# Altium footprint library MesComposants.PcbLib: 6 footprints
Each footprint in its own frame and in the unit in brackets; x right, y up, seen from the top. Pads: shape width x height; smd on the part's side, far side on the other; paste and mask are expansions set on the pad; w line width, h text height; cw(c..) or ccw(c..) is an arc to the next point about the centre after c.
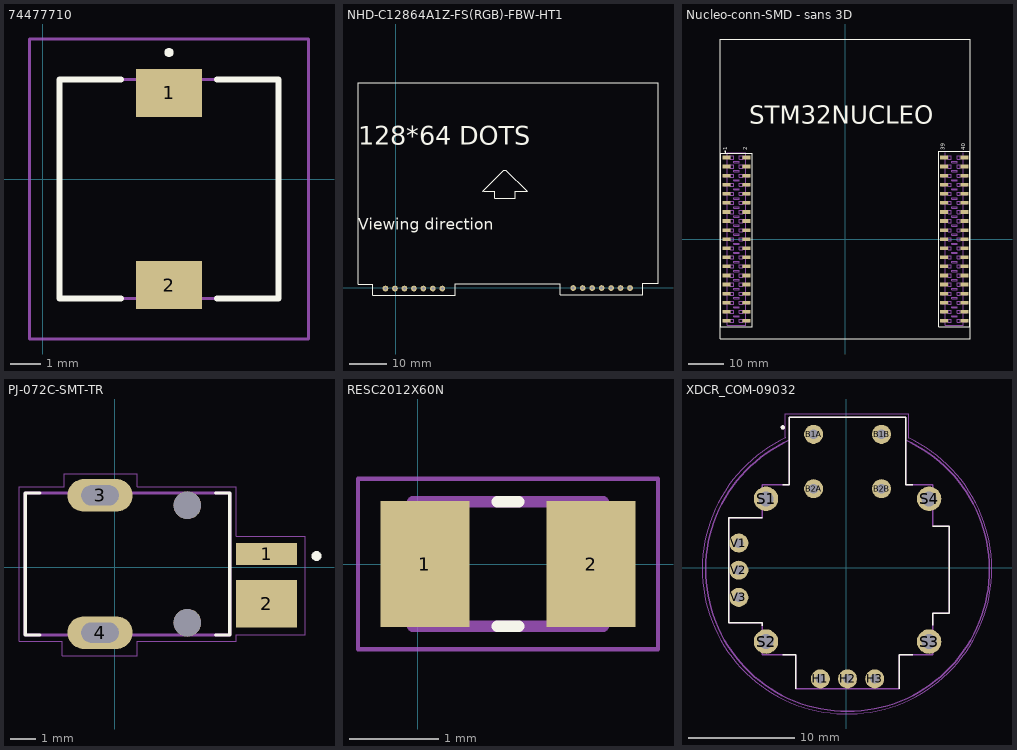
[diagram p0: the footprints below, top view; thin cyan lines are the x and y axes]

## 74477710 [mm]
pads (2):
  rect 2.2x1.6 smd: 1(4.211,2.867) 2(4.211,-3.533)
Top Overlay:
  lines w0.2: 2.611,-3.983 0.561,-3.983 0.561,3.317 2.611,3.317 ; 5.811,-3.983 7.861,-3.983 7.861,3.317 5.811,3.317 ; 4.211,4.167 ccw(c4.211,4.217) 4.211,4.267 ; 4.211,4.167 cw(c4.211,4.217) 4.211,4.267 ; 4.211,4.167 ccw(c4.211,4.217) 4.211,4.267
Mechanical 13:
  lines w0.1: 0.561,-3.983 7.861,-3.983 7.861,3.317 0.561,3.317 0.561,-3.983
Mechanical 15:
  lines w0.1: -0.439,-5.333 8.861,-5.333 8.861,4.667 -0.439,4.667 -0.439,-5.333
3D body "74477710.stp": height 4.6, standoff 0, extent 0.561,-4.173 7.861,3.507

## NHD-C12864A1Z-FS(RGB)-FBW-HT1 [mil]
pads (14):
  round 60 hole 30: 1(-110,-10) 2(-10,-10) 3(90,-10) 4(190,-10) 5(290,-10) 6(390,-10) 7(490,-10) 8(1870,-5) 9(1970,-5) 10(2070,-5) 11(2170,-5) 12(2270,-5) 13(2370,-5) 14(2470,-5)
Top Overlay:
  lines w10: -245,-60 -245,-80 ; 915,1015 935,1035 1140,1240 1160,1240 1385,1015 1260,1015 1260,940 1045,940 1045,1015 925,1015 ; 1735,-55 1735,-75 ; -245,-80 -110,-80 525,-80 625,-80 625,40 1735,40 1735,-75 ; -245,-80 -245,35 -395,35 -395,2160 2760,2160 2765,2160 2765,2155 2765,2150 2765,45 2605,45 2605,-75 2505,-75 1870,-75 1735,-75
  text "128*64 DOTS" at -395,1505 h196.85
  text "Viewing direction" at -400,610 h118.11

## Nucleo-conn-SMD - sans 3D [mil] "Interface Nucleo morpho connectors"
pads (77):
  rect 87.4x40.16 smd: 1(-1311.26,900) 2(-1088.74,900) 3(-1311.26,800) 4(-1088.74,800) 5(-1311.26,700) 6(-1088.74,700) 7(-1311.26,600) 8(-1088.74,600) 9(-1311.26,500) 10(-1088.74,500) 11(-1311.26,400) 12(-1088.74,400) 13(-1311.26,300) 14(-1088.74,300) 15(-1311.26,200) 16(-1088.74,200) 17(-1311.26,100) 18(-1088.74,100) 19(-1311.26,0) 20(-1088.74,0) 21(-1311.26,-100) 22(-1088.74,-100) 23(-1311.26,-200) 24(-1088.74,-200) 25(-1311.26,-300) 26(-1088.74,-300) 27(-1311.26,-400) 28(-1088.74,-400) 29(-1311.26,-500) 30(-1088.74,-500) 31(-1311.26,-600) 32(-1088.74,-600) 33(-1311.26,-700) 34(-1088.74,-700) 35(-1311.26,-800) 36(-1088.74,-800) 37(-1311.26,-900) 38(-1088.74,-900) 39(1088.74,900) 39(1088.74,900) 40(1311.26,900) 41(1088.74,800) 42(1311.26,800) 43(1088.74,700) 44(1311.26,700) 45(1088.74,600) 46(1311.26,600) 47(1088.74,500) 48(1311.26,500) 49(1088.74,400) 50(1311.26,400) 51(1088.74,300) 52(1311.26,300) 53(1088.74,200) 54(1311.26,200) 55(1088.74,100) 56(1311.26,100) 57(1088.74,0) 58(1311.26,0) 59(1088.74,-100) 60(1311.26,-100) 61(1088.74,-200) 62(1311.26,-200) 63(1088.74,-300) 64(1311.26,-300) 65(1088.74,-400) 66(1311.26,-400) 67(1088.74,-500) 68(1311.26,-500) 69(1088.74,-600) 70(1311.26,-600) 71(1088.74,-700) 72(1311.26,-700) 73(1088.74,-800) 74(1311.26,-800) 75(1088.74,-900) 76(1311.26,-900)
Top Overlay:
  circle w9.84: c-1321.85,964.99 r4.92
  lines w7.87: -1372.72,-967.72 -1027.28,-967.72 -1027.28,947 -1372.72,947 -1372.72,-967.72 ; 1027.28,-967.72 1027.28,967.72 1372.72,967.72 1372.72,-967.72 1027.28,-967.72
  lines w10: -1377.95,-1100 -1377.95,2205.71 1377.95,2205.71 1377.95,-1100 -1377.95,-1100
  text "39" at 1113.74,981.14 h77.5
  text "40" at 1336.26,981.14 h77.5
  text "1" at -1286.26,981.14 h77.5
  text "2" at -1063.74,981.14 h77.5
  text "STM32NUCLEO" at -1060,1272.13 h196.85
Top Paste:
  region: 1354.96,879.92 1354.96,920.08 1267.56,920.08 1267.56,879.92
  region: 1132.44,879.92 1132.44,920.08 1045.04,920.08 1045.04,879.92
  region: 1354.96,779.92 1354.96,820.08 1267.56,820.08 1267.56,779.92
  region: 1132.44,779.92 1132.44,820.08 1045.04,820.08 1045.04,779.92
  region: 1354.96,679.92 1354.96,720.08 1267.56,720.08 1267.56,679.92
  region: 1132.44,679.92 1132.44,720.08 1045.04,720.08 1045.04,679.92
  region: 1354.96,579.92 1354.96,620.08 1267.56,620.08 1267.56,579.92
  region: 1132.44,579.92 1132.44,620.08 1045.04,620.08 1045.04,579.92
  region: 1354.96,479.92 1354.96,520.08 1267.56,520.08 1267.56,479.92
  region: 1132.44,479.92 1132.44,520.08 1045.04,520.08 1045.04,479.92
  region: 1354.96,379.92 1354.96,420.08 1267.56,420.08 1267.56,379.92
  region: 1132.44,379.92 1132.44,420.08 1045.04,420.08 1045.04,379.92
  region: 1354.96,279.92 1354.96,320.08 1267.56,320.08 1267.56,279.92
  region: 1132.44,279.92 1132.44,320.08 1045.04,320.08 1045.04,279.92
  region: 1354.96,179.92 1354.96,220.08 1267.56,220.08 1267.56,179.92
  region: 1132.44,179.92 1132.44,220.08 1045.04,220.08 1045.04,179.92
  region: 1354.96,79.92 1354.96,120.08 1267.56,120.08 1267.56,79.92
  region: 1132.44,79.92 1132.44,120.08 1045.04,120.08 1045.04,79.92
  region: 1354.96,-20.08 1354.96,20.08 1267.56,20.08 1267.56,-20.08
  region: 1132.44,-20.08 1132.44,20.08 1045.04,20.08 1045.04,-20.08
  region: 1354.96,-120.08 1354.96,-79.92 1267.56,-79.92 1267.56,-120.08
  region: 1132.44,-120.08 1132.44,-79.92 1045.04,-79.92 1045.04,-120.08
  region: 1354.96,-220.08 1354.96,-179.92 1267.56,-179.92 1267.56,-220.08
  region: 1132.44,-220.08 1132.44,-179.92 1045.04,-179.92 1045.04,-220.08
  region: 1354.96,-320.08 1354.96,-279.92 1267.56,-279.92 1267.56,-320.08
  region: 1132.44,-320.08 1132.44,-279.92 1045.04,-279.92 1045.04,-320.08
  region: 1354.96,-420.08 1354.96,-379.92 1267.56,-379.92 1267.56,-420.08
  region: 1132.44,-420.08 1132.44,-379.92 1045.04,-379.92 1045.04,-420.08
  region: 1354.96,-520.08 1354.96,-479.92 1267.56,-479.92 1267.56,-520.08
  region: 1132.44,-520.08 1132.44,-479.92 1045.04,-479.92 1045.04,-520.08
  region: 1354.96,-620.08 1354.96,-579.92 1267.56,-579.92 1267.56,-620.08
  region: 1132.44,-620.08 1132.44,-579.92 1045.04,-579.92 1045.04,-620.08
  region: 1354.96,-720.08 1354.96,-679.92 1267.56,-679.92 1267.56,-720.08
  region: 1132.44,-720.08 1132.44,-679.92 1045.04,-679.92 1045.04,-720.08
  region: 1354.96,-820.08 1354.96,-779.92 1267.56,-779.92 1267.56,-820.08
  region: 1132.44,-820.08 1132.44,-779.92 1045.04,-779.92 1045.04,-820.08
  region: 1354.96,-920.08 1354.96,-879.92 1267.56,-879.92 1267.56,-920.08
  region: 1132.44,-920.08 1132.44,-879.92 1045.04,-879.92 1045.04,-920.08
  region: -1267.56,-920.08 -1267.56,-879.92 -1354.96,-879.92 -1354.96,-920.08
  region: -1045.04,-920.08 -1045.04,-879.92 -1132.44,-879.92 -1132.44,-920.08
  region: -1267.56,-820.08 -1267.56,-779.92 -1354.96,-779.92 -1354.96,-820.08
  region: -1045.04,-820.08 -1045.04,-779.92 -1132.44,-779.92 -1132.44,-820.08
  region: -1267.56,-720.08 -1267.56,-679.92 -1354.96,-679.92 -1354.96,-720.08
  region: -1045.04,-720.08 -1045.04,-679.92 -1132.44,-679.92 -1132.44,-720.08
  region: -1267.56,-620.08 -1267.56,-579.92 -1354.96,-579.92 -1354.96,-620.08
  region: -1045.04,-620.08 -1045.04,-579.92 -1132.44,-579.92 -1132.44,-620.08
  region: -1267.56,-520.08 -1267.56,-479.92 -1354.96,-479.92 -1354.96,-520.08
  region: -1045.04,-520.08 -1045.04,-479.92 -1132.44,-479.92 -1132.44,-520.08
  region: -1267.56,-420.08 -1267.56,-379.92 -1354.96,-379.92 -1354.96,-420.08
  region: -1045.04,-420.08 -1045.04,-379.92 -1132.44,-379.92 -1132.44,-420.08
  region: -1267.56,-320.08 -1267.56,-279.92 -1354.96,-279.92 -1354.96,-320.08
  region: -1045.04,-320.08 -1045.04,-279.92 -1132.44,-279.92 -1132.44,-320.08
  region: -1267.56,-220.08 -1267.56,-179.92 -1354.96,-179.92 -1354.96,-220.08
  region: -1045.04,-220.08 -1045.04,-179.92 -1132.44,-179.92 -1132.44,-220.08
  region: -1267.56,-120.08 -1267.56,-79.92 -1354.96,-79.92 -1354.96,-120.08
  region: -1045.04,-120.08 -1045.04,-79.92 -1132.44,-79.92 -1132.44,-120.08
  region: -1267.56,-20.08 -1267.56,20.08 -1354.96,20.08 -1354.96,-20.08
  region: -1045.04,-20.08 -1045.04,20.08 -1132.44,20.08 -1132.44,-20.08
  region: -1267.56,79.92 -1267.56,120.08 -1354.96,120.08 -1354.96,79.92
  region: -1045.04,79.92 -1045.04,120.08 -1132.44,120.08 -1132.44,79.92
  region: -1267.56,179.92 -1267.56,220.08 -1354.96,220.08 -1354.96,179.92
  region: -1045.04,179.92 -1045.04,220.08 -1132.44,220.08 -1132.44,179.92
  region: -1267.56,279.92 -1267.56,320.08 -1354.96,320.08 -1354.96,279.92
  region: -1045.04,279.92 -1045.04,320.08 -1132.44,320.08 -1132.44,279.92
  region: -1267.56,379.92 -1267.56,420.08 -1354.96,420.08 -1354.96,379.92
  region: -1045.04,379.92 -1045.04,420.08 -1132.44,420.08 -1132.44,379.92
  region: -1267.56,479.92 -1267.56,520.08 -1354.96,520.08 -1354.96,479.92
  region: -1045.04,479.92 -1045.04,520.08 -1132.44,520.08 -1132.44,479.92
  region: -1267.56,579.92 -1267.56,620.08 -1354.96,620.08 -1354.96,579.92
  region: -1045.04,579.92 -1045.04,620.08 -1132.44,620.08 -1132.44,579.92
  region: -1267.56,679.92 -1267.56,720.08 -1354.96,720.08 -1354.96,679.92
  region: -1045.04,679.92 -1045.04,720.08 -1132.44,720.08 -1132.44,679.92
  region: -1267.56,779.92 -1267.56,820.08 -1354.96,820.08 -1354.96,779.92
  region: -1045.04,779.92 -1045.04,820.08 -1132.44,820.08 -1132.44,779.92
  region: -1267.56,879.92 -1267.56,920.08 -1354.96,920.08 -1354.96,879.92
  region: -1045.04,879.92 -1045.04,920.08 -1132.44,920.08 -1132.44,879.92
Top Solder:
  region: 1356.97,877.91 1356.97,922.09 1265.55,922.09 1265.55,877.91
  region: 1134.45,877.91 1134.45,922.09 1043.03,922.09 1043.03,877.91
  region: 1356.97,777.91 1356.97,822.09 1265.55,822.09 1265.55,777.91
  region: 1134.45,777.91 1134.45,822.09 1043.03,822.09 1043.03,777.91
  region: 1356.97,677.91 1356.97,722.09 1265.55,722.09 1265.55,677.91
  region: 1134.45,677.91 1134.45,722.09 1043.03,722.09 1043.03,677.91
  region: 1356.97,577.91 1356.97,622.09 1265.55,622.09 1265.55,577.91
  region: 1134.45,577.91 1134.45,622.09 1043.03,622.09 1043.03,577.91
  region: 1356.97,477.91 1356.97,522.09 1265.55,522.09 1265.55,477.91
  region: 1134.45,477.91 1134.45,522.09 1043.03,522.09 1043.03,477.91
  region: 1356.97,377.91 1356.97,422.09 1265.55,422.09 1265.55,377.91
  region: 1134.45,377.91 1134.45,422.09 1043.03,422.09 1043.03,377.91
  region: 1356.97,277.91 1356.97,322.09 1265.55,322.09 1265.55,277.91
  region: 1134.45,277.91 1134.45,322.09 1043.03,322.09 1043.03,277.91
  region: 1356.97,177.91 1356.97,222.09 1265.55,222.09 1265.55,177.91
  region: 1134.45,177.91 1134.45,222.09 1043.03,222.09 1043.03,177.91
  region: 1356.97,77.91 1356.97,122.09 1265.55,122.09 1265.55,77.91
  region: 1134.45,77.91 1134.45,122.09 1043.03,122.09 1043.03,77.91
  region: 1356.97,-22.09 1356.97,22.09 1265.55,22.09 1265.55,-22.09
  region: 1134.45,-22.09 1134.45,22.09 1043.03,22.09 1043.03,-22.09
  region: 1356.97,-122.09 1356.97,-77.91 1265.55,-77.91 1265.55,-122.09
  region: 1134.45,-122.09 1134.45,-77.91 1043.03,-77.91 1043.03,-122.09
  region: 1356.97,-222.09 1356.97,-177.91 1265.55,-177.91 1265.55,-222.09
  region: 1134.45,-222.09 1134.45,-177.91 1043.03,-177.91 1043.03,-222.09
  region: 1356.97,-322.09 1356.97,-277.91 1265.55,-277.91 1265.55,-322.09
  region: 1134.45,-322.09 1134.45,-277.91 1043.03,-277.91 1043.03,-322.09
  region: 1356.97,-422.09 1356.97,-377.91 1265.55,-377.91 1265.55,-422.09
  region: 1134.45,-422.09 1134.45,-377.91 1043.03,-377.91 1043.03,-422.09
  region: 1356.97,-522.09 1356.97,-477.91 1265.55,-477.91 1265.55,-522.09
  region: 1134.45,-522.09 1134.45,-477.91 1043.03,-477.91 1043.03,-522.09
  region: 1356.97,-622.09 1356.97,-577.91 1265.55,-577.91 1265.55,-622.09
  region: 1134.45,-622.09 1134.45,-577.91 1043.03,-577.91 1043.03,-622.09
  region: 1356.97,-722.09 1356.97,-677.91 1265.55,-677.91 1265.55,-722.09
  region: 1134.45,-722.09 1134.45,-677.91 1043.03,-677.91 1043.03,-722.09
  region: 1356.97,-822.09 1356.97,-777.91 1265.55,-777.91 1265.55,-822.09
  region: 1134.45,-822.09 1134.45,-777.91 1043.03,-777.91 1043.03,-822.09
  region: 1356.97,-922.09 1356.97,-877.91 1265.55,-877.91 1265.55,-922.09
  region: 1134.45,-922.09 1134.45,-877.91 1043.03,-877.91 1043.03,-922.09
  region: -1265.55,-922.09 -1265.55,-877.91 -1356.97,-877.91 -1356.97,-922.09
  region: -1043.03,-922.09 -1043.03,-877.91 -1134.45,-877.91 -1134.45,-922.09
  region: -1265.55,-822.09 -1265.55,-777.91 -1356.97,-777.91 -1356.97,-822.09
  region: -1043.03,-822.09 -1043.03,-777.91 -1134.45,-777.91 -1134.45,-822.09
  region: -1265.55,-722.09 -1265.55,-677.91 -1356.97,-677.91 -1356.97,-722.09
  region: -1043.03,-722.09 -1043.03,-677.91 -1134.45,-677.91 -1134.45,-722.09
  region: -1265.55,-622.09 -1265.55,-577.91 -1356.97,-577.91 -1356.97,-622.09
  region: -1043.03,-622.09 -1043.03,-577.91 -1134.45,-577.91 -1134.45,-622.09
  region: -1265.55,-522.09 -1265.55,-477.91 -1356.97,-477.91 -1356.97,-522.09
  region: -1043.03,-522.09 -1043.03,-477.91 -1134.45,-477.91 -1134.45,-522.09
  region: -1265.55,-422.09 -1265.55,-377.91 -1356.97,-377.91 -1356.97,-422.09
  region: -1043.03,-422.09 -1043.03,-377.91 -1134.45,-377.91 -1134.45,-422.09
  region: -1265.55,-322.09 -1265.55,-277.91 -1356.97,-277.91 -1356.97,-322.09
  region: -1043.03,-322.09 -1043.03,-277.91 -1134.45,-277.91 -1134.45,-322.09
  region: -1265.55,-222.09 -1265.55,-177.91 -1356.97,-177.91 -1356.97,-222.09
  region: -1043.03,-222.09 -1043.03,-177.91 -1134.45,-177.91 -1134.45,-222.09
  region: -1265.55,-122.09 -1265.55,-77.91 -1356.97,-77.91 -1356.97,-122.09
  region: -1043.03,-122.09 -1043.03,-77.91 -1134.45,-77.91 -1134.45,-122.09
  region: -1265.55,-22.09 -1265.55,22.09 -1356.97,22.09 -1356.97,-22.09
  region: -1043.03,-22.09 -1043.03,22.09 -1134.45,22.09 -1134.45,-22.09
  region: -1265.55,77.91 -1265.55,122.09 -1356.97,122.09 -1356.97,77.91
  region: -1043.03,77.91 -1043.03,122.09 -1134.45,122.09 -1134.45,77.91
  region: -1265.55,177.91 -1265.55,222.09 -1356.97,222.09 -1356.97,177.91
  region: -1043.03,177.91 -1043.03,222.09 -1134.45,222.09 -1134.45,177.91
  region: -1265.55,277.91 -1265.55,322.09 -1356.97,322.09 -1356.97,277.91
  region: -1043.03,277.91 -1043.03,322.09 -1134.45,322.09 -1134.45,277.91
  region: -1265.55,377.91 -1265.55,422.09 -1356.97,422.09 -1356.97,377.91
  region: -1043.03,377.91 -1043.03,422.09 -1134.45,422.09 -1134.45,377.91
  region: -1265.55,477.91 -1265.55,522.09 -1356.97,522.09 -1356.97,477.91
  region: -1043.03,477.91 -1043.03,522.09 -1134.45,522.09 -1134.45,477.91
  region: -1265.55,577.91 -1265.55,622.09 -1356.97,622.09 -1356.97,577.91
  region: -1043.03,577.91 -1043.03,622.09 -1134.45,622.09 -1134.45,577.91
  region: -1265.55,677.91 -1265.55,722.09 -1356.97,722.09 -1356.97,677.91
  region: -1043.03,677.91 -1043.03,722.09 -1134.45,722.09 -1134.45,677.91
  region: -1265.55,777.91 -1265.55,822.09 -1356.97,822.09 -1356.97,777.91
  region: -1043.03,777.91 -1043.03,822.09 -1134.45,822.09 -1134.45,777.91
  region: -1043.03,877.91 -1043.03,922.09 -1134.45,922.09 -1134.45,877.91
Mechanical 16:
  drawing of 827 lines, arcs and shapes, not listed
  text "39" at 1113.74,981.14 h77.5
  text "40" at 1336.26,981.14 h77.5
  text "2" at -1063.74,981.14 h77.5
  text "1" at -1286.26,981.14 h77.5
3D body "SSM-119-L-DV.stp": height 290, standoff -2, extent -1339.5,-951 -1062.5,949
3D body "SSM-119-L-DV.stp": height 290, standoff -2, extent 1060.5,-951 1337.5,949

## PJ-072C-SMT-TR [mm]
pads (6):
  rect 2.45x0.9 smd: 1(6.083,0.527)
  rect 2.45x1.9 smd: 2(6.083,-1.473)
  oval 2.616x1.308 hole 0.8 slot 1.5 at 0 deg: 3(-0.592,2.877) 4(-0.592,-2.623)
  round 1.1 hole 1.1 unplated: ""(2.908,-2.223) ""(2.908,2.477)
Top Overlay:
  circle w0.2: c8.083,0.447 r0.1
  lines w0.127: -3.012,-2.723 -3.592,-2.723 -3.592,2.977 -3.012,2.977 ; 4.028,-2.723 4.608,-2.723 4.608,2.977 4.028,2.977
Mechanical 13:
  lines w0.127: -3.592,-2.723 4.608,-2.723 4.608,2.977 -3.592,2.977 -3.592,-2.723
Mechanical 15:
  lines w0.05: -3.842,-2.973 -2.107,-2.973 -2.107,-3.553 0.903,-3.553 0.903,-2.973 4.858,-2.973 4.858,-2.713 7.623,-2.713 7.623,1.247 4.858,1.247 4.858,3.227 0.903,3.227 0.903,3.737 -2.037,3.737 -2.037,3.227 -3.842,3.227 -3.842,-2.973

## RESC2012X60N [mm]
pads (2):
  rect 1x1.42 smd: 1(0.081,0) 2(1.951,0)
Top Overlay:
  lines w0.127: 0.896,-0.7 1.136,-0.7 ; 0.896,0.7 1.136,0.7
Mechanical 13:
  lines w0.127: -0.054,-0.7 2.086,-0.7 2.086,0.7 -0.054,0.7 -0.054,-0.7
Mechanical 15:
  lines w0.05: -0.669,-0.96 2.701,-0.96 2.701,0.96 -0.669,0.96 -0.669,-0.96

## XDCR_COM-09032 [mil]
pads (14):
  round 70 hole 35.43: B1A(-120,490) B1B(130,490) B2A(-120,290) B2B(130,290)
  round 70 hole 35: H1(-95,-410) H2(5,-410) H3(105,-410) V1(-395,90) V2(-395,-10) V3(-395,-110)
  round 90 hole 55: S1(-295,252.5) S2(-295,-272.5) S3(305,-272.5) S4(305,252.5)
Top Overlay:
  circle w7.87: c-233.19,515.59 r3.94
  lines w5: -307.99,-213.54 -307.99,-202.91 -432.01,-202.91 -432.01,182.91 -307.99,182.91 ; -233.98,-321.02 -185.94,-321.02 -185.94,-447.01 ; -233.98,304.96 -209.57,304.96 -209.57,552.99 219.57,552.99 219.57,304.96 244.37,304.96 ; 195.94,-447.01 195.94,-321.02 244.37,-321.02 ; 317.99,-211.57 317.99,-167.48 379.02,-167.48 379.02,151.42 317.99,151.42
Mechanical 13:
  circle w7.87: c-233.19,515.59 r3.94
  lines w5: -207.33,469.35 ccw(c5,-7.55) 217.33,469.35 ; -432.01,-202.91 -432.01,182.91 -307.99,182.91 -307.99,304.96 -209.57,304.96 -209.57,552.99 219.57,552.99 219.57,304.96 317.99,304.96 317.99,151.42 379.02,151.42 379.02,-167.48 317.99,-167.48 317.99,-321.02 195.94,-321.02 195.94,-447.01 -185.94,-447.01 -185.94,-321.02 -307.99,-321.02 -307.99,-202.91 -432.01,-202.91
Mechanical 15:
  lines w1.97: -223.35,476.22 -223.35,564.8 229.41,564.8 229.41,476.22 ; -222.17,476.77 ccw(c3.03,-6.17) 228.23,476.77